# EAGLE library part MAX8815A (library MAÑE)
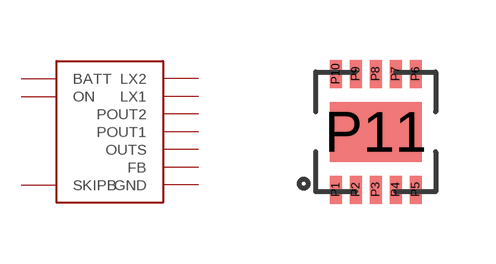
[diagram p20: symbol with the pads of 10TDFN; footprint 10TDFN]

Designator prefix -

## MAX8815ADC-DC  [10TDFN]
P1  LX1
P2  LX2
P3  BATT
P4  ON
P5  GND
P6  FB
P7  OUTS
P8  SKIPB
P9  POUT1
P10  POUT2

## Footprint 10TDFN (pad centres in mm)
smd 0.3 x 0.7: P1 0.5,0.05; P2 1,0.05; P3 1.5,0.05; P4 2,0.05; P5 2.5,0.05; P6 2.5,2.95; P7 2,2.95; P8 1.5,2.95; P9 1,2.95; P10 0.5,2.95
smd 2.3 x 1.5: P11 1.5,1.5